# EAGLE library part CC1101 (library tofu)
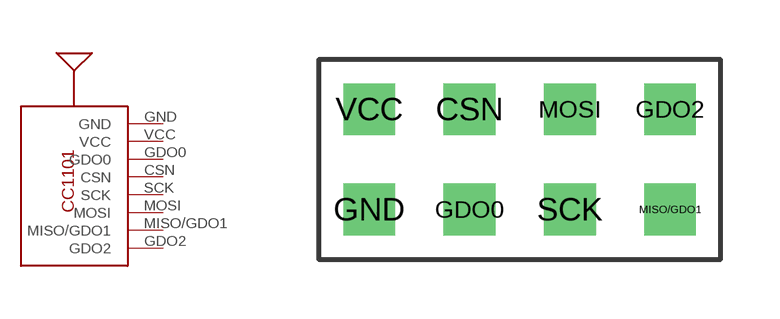
[diagram p7: symbol with the pads of CC1101; footprint CC1101]

Designator prefix -

## CC1101  [CC1101]
CSN  CSN
GDO0  GDO0
GDO2  GDO2
GND  GND
MISO/GDO1  MISO/GDO1
MOSI  MOSI
SCK  SCK
VCC  VCC

## Footprint CC1101 (pad centres in mm)
drill 0.8 square: CSN -2.54,0; GDO0 -2.54,-2.54; GDO2 2.54,0; GND -5.08,-2.54; MISO/GDO1 2.54,-2.54; MOSI 0,0; SCK 0,-2.54; VCC -5.08,0